# EAGLE library part TOYO-D24882 (library LED - 8 x 8 Matrix)
Name des Bauteiles: -->Toyo 8 x 8 Matrix - D24882B-N1-WH1-0-W Daten:8 x 8 Matrix, weiß, 60,2 x 60,2 mm Artikelnummer:#k064153 Datenblatt:http://www.google.de/url?sa=t&rct=j&q=&esrc=s&source=web&cd=1&ved=0CCEQFjAA&url=http%3A%2F%2Fwww.toyo-led.com%2Fwp-content%2Fuploads%2F2013%2F12%2FD24882-NM1.pdf&ei=om7UVMf2HYnYaqm1gogL&usg=AFQjCNE1iihB7vWwqS2Zx0HqQpn89Eb1CA&bvm=bv.85464276,d.bGQ&cad=rja __________________________________________ generated by Eagle Description Tool am : 06.02.2015 08:35:22 erstellt von: Hm
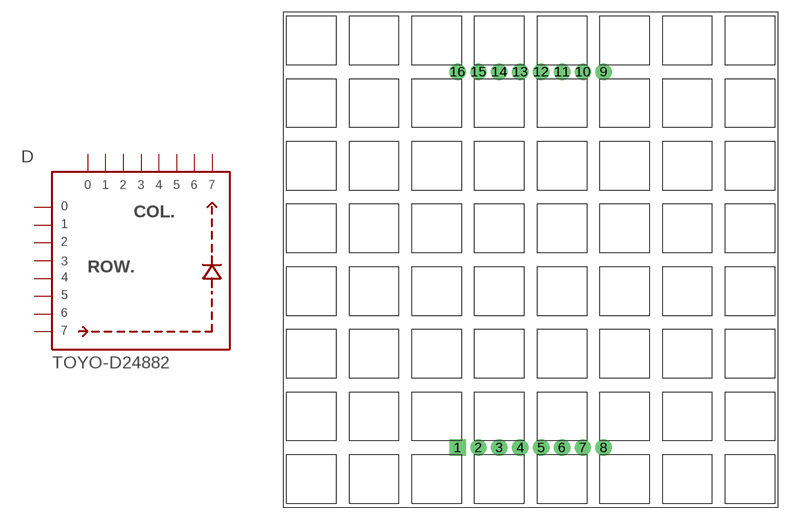
[diagram p0: symbol with the pads of TOYO; footprint TOYO]

Designator prefix D

## TOYO-D24882-N1-WH-0-WF  [TOYO]
1  1  in
2  2  in
3  3  in
4  4  in
5  5  in
6  6  in
7  7  in
8  8  in
9  9  in
10  10  in
11  11  in
12  12  in
13  13  in
14  14  in
15  15  in
16  16  in

## Footprint TOYO (pad centres in mm)
drill 0.8 pad 2 square: 1 -8.89,-22.86
drill 0.8 pad 2: 2 -6.35,-22.86; 3 -3.81,-22.86; 4 -1.27,-22.86; 5 1.27,-22.86; 6 3.81,-22.86; 7 6.35,-22.86; 8 8.89,-22.86; 9 8.89,22.86; 10 6.35,22.86; 11 3.81,22.86; 12 1.27,22.86; 13 -1.27,22.86; 14 -3.81,22.86; 15 -6.35,22.86; 16 -8.89,22.86